# Altium integrated library OPA365AID.IntLib: 1 symbol
Pins are listed as number, name and electrical type; pins without a type are passive.

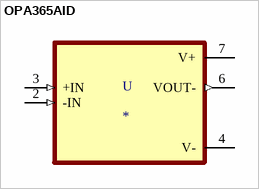
[diagram p0: symbol OPA365AID]

## OPA365AID
designator U
2.2V, 50MHz, Low-Noise, Single-Supply Rail-to-Rail Operational Amplifier 8-SOIC -40 to 125; MP: OPA365AID; MF: Texas Instruments; Price: None; Package: SOIC-8 Texas Instruments; Value: *; DigiKey-Purchase-URL: https://snapeda.com/shop?store=DigiKey&id=214406; Availability: Warning; Mouser-Purchase-URL: https://snapeda.com/shop?store=Mouser&id=214406; SnapEDA_Link: https://www.snapeda.com/parts/OPA365AID/Texas%20Instruments/view-part/214406/?ref=snap; Texas_Instruments-Purchase-URL: https://snapeda.com/shop?store=Texas+Instruments&id=214406
footprint SOIC127P599X175-8N
pins: 2 -IN (in), 3 +IN (in), 4 V- (power), 6 VOUT- (out), 7 V+ (power)